# EAGLE library part GPS-UBLOX-5S (library Module)
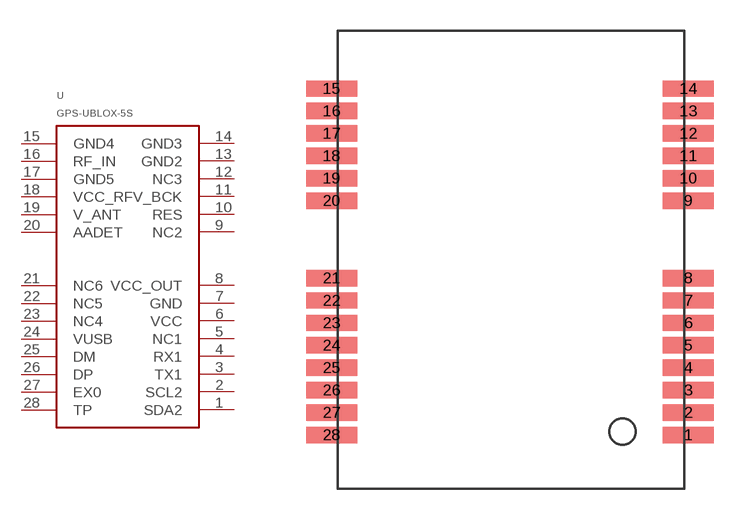
[diagram p3: symbol with the pads of 28P-1.1-22.5X17; footprint 28P-1.1-22.5X17]

Designator prefix U

## GPS-UBLOX-5S  [28P-1.1-22.5X17]
1  SDA2
2  SCL2
3  TX1
4  RX1
5  NC1
6  VCC
7  GND
8  VCC_OUT
9  NC2
10  RES
11  V_BCK
12  NC3
13  GND2
14  GND3
15  GND4
16  RF_IN
17  GND5
18  VCC_RF
19  V_ANT
20  AADET
21  NC6
22  NC5
23  NC4
24  VUSB
25  DM
26  DP
27  EX0
28  TP

## Footprint 28P-1.1-22.5X17 (pad centres in mm)
smd 2.5 x 0.8: 1 17.2,-19.85; 2 17.2,-18.75; 3 17.2,-17.65; 4 17.2,-16.55; 5 17.2,-15.45; 6 17.2,-14.35; 7 17.2,-13.25; 8 17.2,-12.15; 9 17.2,-8.35; 10 17.2,-7.25; 11 17.2,-6.15; 12 17.2,-5.05; 13 17.2,-3.95; 14 17.2,-2.85; 15 -0.3,-2.85; 16 -0.3,-3.95; 17 -0.3,-5.05; 18 -0.3,-6.15; 19 -0.3,-7.25; 20 -0.3,-8.35; 21 -0.3,-12.15; 22 -0.3,-13.25; 23 -0.3,-14.35; 24 -0.3,-15.45; 25 -0.3,-16.55; 26 -0.3,-17.65; 27 -0.3,-18.75; 28 -0.3,-19.85